# Altium integrated library 6220xx21121 (rev17b).IntLib: 31 symbols
Pins are listed as number, name and electrical type; pins without a type are passive.

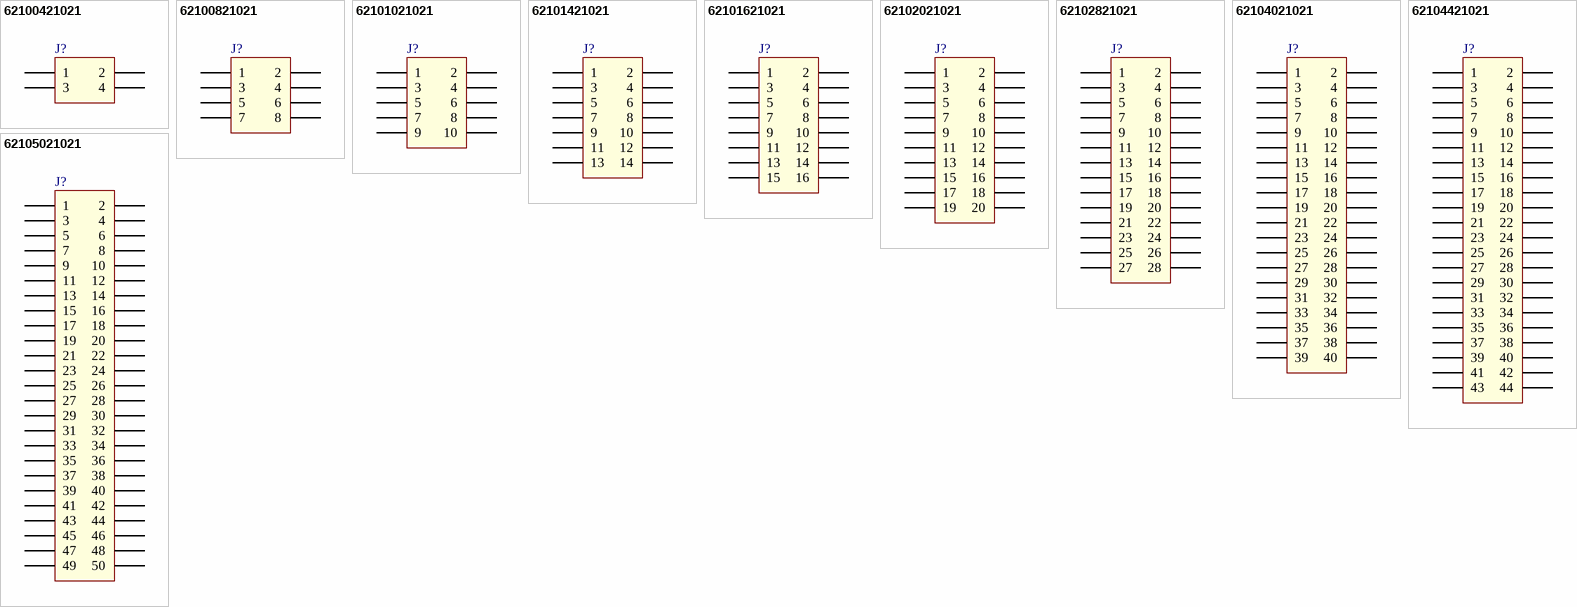
[diagram p0: symbols 62100421021 to 62105021021]

## 62100421021
designator J?
WR-PHD 1.27 mm SMT Dual Pin Header, 4p; Part Number: 62100421021; Pin Number: 4; Rated Current: 1 A; Working Voltage: 100 VAC; Withstanding Voltage: 500 VAC; Pitch: 1.27 mm; ComponentLink1Description: Manufacturer; ComponentLink1URL: http://www.we-online.de; ComponentLink2Description: Datasheet; ComponentLink2URL: http://katalog.we-online.de/em/datasheet/62100421021.pdf; Published Date: Aug 2017; Publisher: Wurth Elektronik
footprint 62100421021
pins: 1, 2, 3, 4

## 62100821021
designator J?
WR-PHD 1.27 mm SMT Dual Pin Header, 8p; Part Number: 62100821021; Pin Number: 8; Rated Current: 1 A; Working Voltage: 100 VAC; Withstanding Voltage: 500 VAC; Pitch: 1.27 mm; ComponentLink1Description: Manufacturer; ComponentLink1URL: http://www.we-online.de; ComponentLink2Description: Datasheet; ComponentLink2URL: http://katalog.we-online.de/em/datasheet/62100821021.pdf; Published Date: Aug 2017; Publisher: Wurth Elektronik
footprint 62100821021
pins: 1, 2, 3, 4, 5, 6, 7, 8

## 62101021021
designator J?
WR-PHD 1.27 mm SMT Dual Pin Header, 10p; Part Number: 62101021021; Pin Number: 10; Rated Current: 1 A; Working Voltage: 100 VAC; Withstanding Voltage: 500 VAC; Pitch: 1.27 mm; ComponentLink1Description: Manufacturer; ComponentLink1URL: http://www.we-online.de; ComponentLink2Description: Datasheet; ComponentLink2URL: http://katalog.we-online.de/em/datasheet/62101021021.pdf; Published Date: Aug 2017; Publisher: Wurth Elektronik
footprint 62101021021
pins: 1, 2, 3, 4, 5, 6, 7, 8, 9, 10

## 62101421021
designator J?
WR-PHD 1.27 mm SMT Dual Pin Header, 14p; Part Number: 62101421021; Pin Number: 14; Rated Current: 1 A; Working Voltage: 100 VAC; Withstanding Voltage: 500 VAC; Pitch: 1.27 mm; ComponentLink1Description: Manufacturer; ComponentLink1URL: http://www.we-online.de; ComponentLink2Description: Datasheet; ComponentLink2URL: http://katalog.we-online.de/em/datasheet/62101421021.pdf; Published Date: Aug 2017; Publisher: Wurth Elektronik
footprint 62101421021
pins: 1, 2, 3, 4, 5, 6, 7, 8, 9, 10, 11, 12, 13, 14

## 62101621021
designator J?
WR-PHD 1.27 mm SMT Dual Pin Header, 16p; Part Number: 62101621021; Pin Number: 16; Rated Current: 1 A; Working Voltage: 100 VAC; Withstanding Voltage: 500 VAC; Pitch: 1.27 mm; ComponentLink1Description: Manufacturer; ComponentLink1URL: http://www.we-online.de; ComponentLink2Description: Datasheet; ComponentLink2URL: http://katalog.we-online.de/em/datasheet/62101621021.pdf; Published Date: Aug 2017; Publisher: Wurth Elektronik
footprint 62101621021
pins: 1, 2, 3, 4, 5, 6, 7, 8, 9, 10, 11, 12, 13, 14, 15, 16

## 62102021021
designator J?
WR-PHD 1.27 mm SMT Dual Pin Header, 20p; Part Number: 62102021021; Pin Number: 20; Rated Current: 1 A; Working Voltage: 100 VAC; Withstanding Voltage: 500 VAC; Pitch: 1.27 mm; ComponentLink1Description: Manufacturer; ComponentLink1URL: http://www.we-online.de; ComponentLink2Description: Datasheet; ComponentLink2URL: http://katalog.we-online.de/em/datasheet/62102021021.pdf; Published Date: Aug 2017; Publisher: Wurth Elektronik
footprint 62102021021
pins: 1, 2, 3, 4, 5, 6, 7, 8, 9, 10, 11, 12, 13, 14, 15, 16, 17, 18, 19, 20

## 62102821021
designator J?
WR-PHD 1.27 mm SMT Dual Pin Header, 28p; Part Number: 62102821021; Pin Number: 28; Rated Current: 1 A; Working Voltage: 100 VAC; Withstanding Voltage: 500 VAC; Pitch: 1.27 mm; ComponentLink1Description: Manufacturer; ComponentLink1URL: http://www.we-online.de; ComponentLink2Description: Datasheet; ComponentLink2URL: http://katalog.we-online.de/em/datasheet/62102821021.pdf; Published Date: Aug 2017; Publisher: Wurth Elektronik
footprint 62102821021
pins: 1, 2, 3, 4, 5, 6, 7, 8, 9, 10, 11, 12, 13, 14, 15, 16, 17, 18, 19, 20, 21, 22, 23, 24, 25, 26, 27, 28

## 62104021021
designator J?
WR-PHD 1.27 mm SMT Dual Pin Header, 40p; Part Number: 62104021021; Pin Number: 40; Rated Current: 1 A; Working Voltage: 100 VAC; Withstanding Voltage: 500 VAC; Pitch: 1.27 mm; ComponentLink1Description: Manufacturer; ComponentLink1URL: http://www.we-online.de; ComponentLink2Description: Datasheet; ComponentLink2URL: http://katalog.we-online.de/em/datasheet/62104021021.pdf; Published Date: Aug 2017; Publisher: Wurth Elektronik
footprint 62104021021
pins: 1, 2, 3, 4, 5, 6, 7, 8, 9, 10, 11, 12, 13, 14, 15, 16, 17, 18, 19, 20, 21, 22, 23, 24, 25, 26, 27, 28, 29, 30, 31, 32, 33, 34, 35, 36, 37, 38, 39, 40

## 62104421021
designator J?
WR-PHD 1.27 mm SMT Dual Pin Header, 44p; Part Number: 62104421021; Pin Number: 44; Rated Current: 1 A; Working Voltage: 100 VAC; Withstanding Voltage: 500 VAC; Pitch: 1.27 mm; ComponentLink1Description: Manufacturer; ComponentLink1URL: http://www.we-online.de; ComponentLink2Description: Datasheet; ComponentLink2URL: http://katalog.we-online.de/em/datasheet/62104421021.pdf; Published Date: Aug 2017; Publisher: Wurth Elektronik
footprint 62104421021
pins: 1, 2, 3, 4, 5, 6, 7, 8, 9, 10, 11, 12, 13, 14, 15, 16, 17, 18, 19, 20, 21, 22, 23, 24, 25, 26, 27, 28, 29, 30, 31, 32, 33, 34, 35, 36, 37, 38, 39, 40, 41, 42, 43, 44

## 62105021021
designator J?
WR-PHD 1.27 mm SMT Dual Pin Header, 50p; Part Number: 62105021021; Pin Number: 50; Rated Current: 1 A; Working Voltage: 100 VAC; Withstanding Voltage: 500 VAC; Pitch: 1.27 mm; ComponentLink1Description: Manufacturer; ComponentLink1URL: http://www.we-online.de; ComponentLink2Description: Datasheet; ComponentLink2URL: http://katalog.we-online.de/em/datasheet/62105021021.pdf; Published Date: Aug 2017; Publisher: Wurth Elektronik
footprint 62105021021
pins: 1, 2, 3, 4, 5, 6, 7, 8, 9, 10, 11, 12, 13, 14, 15, 16, 17, 18, 19, 20, 21, 22, 23, 24, 25, 26, 27, 28, 29, 30, 31, 32, 33, 34, 35, 36, 37, 38, 39, 40, 41, 42, 43, 44, 45, 46, 47, 48, 49, 50


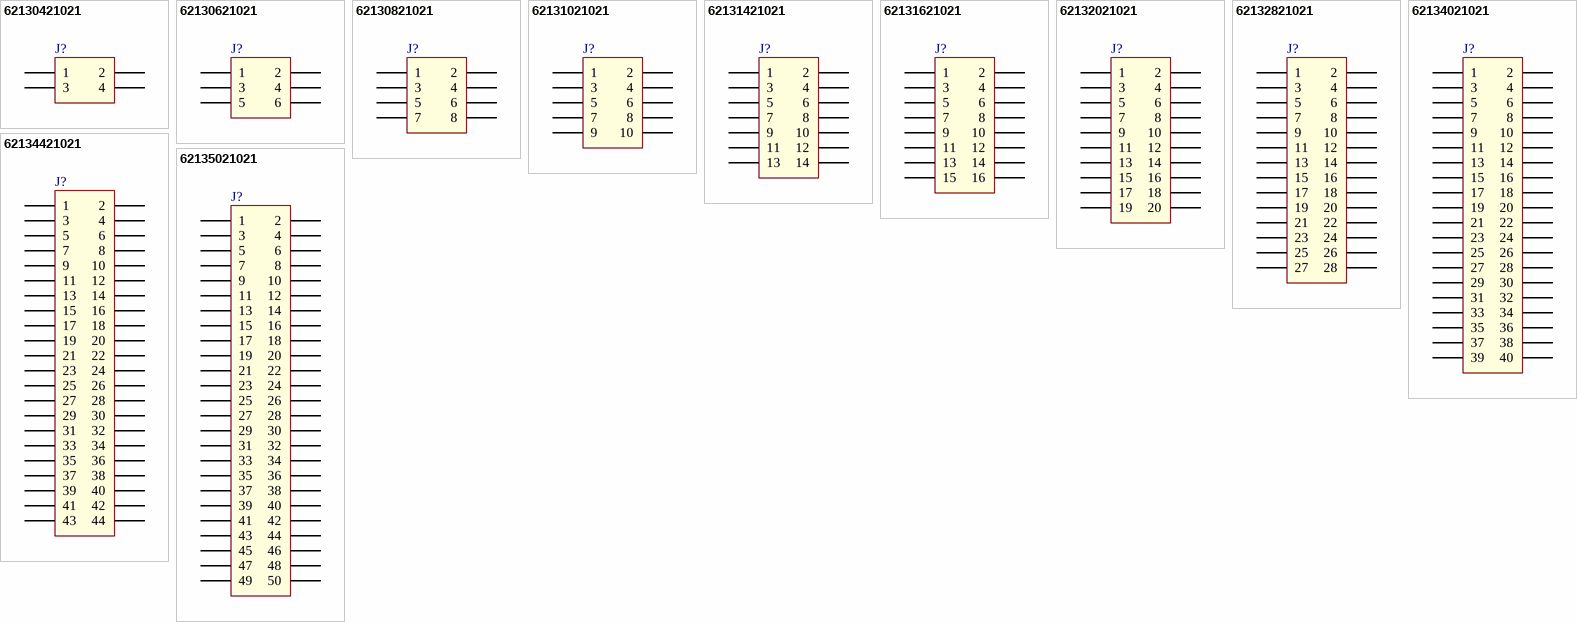
[diagram p1: symbols 62130421021 to 62135021021]

## 62130421021
designator J?
WR-PHD 1.27 mm SMT Dual Pin Header, 4p; Part Number: 62130421021; Pin Number: 4; Rated Current: 1 A; Working Voltage: 100 VAC; Withstanding Voltage: 500 VAC; Pitch: 1.27 mm; ComponentLink1Description: Manufacturer; ComponentLink1URL: http://www.we-online.de; ComponentLink2Description: Datasheet; ComponentLink2URL: http://katalog.we-online.de/em/datasheet/62130421021.pdf; Published Date: Aug 2017; Publisher: Wurth Elektronik
footprint 62130421021
pins: 1, 2, 3, 4

## 62130621021
designator J?
WR-PHD 1.27 mm SMT Dual Pin Header, 6p; Part Number: 62130621021; Pin Number: 6; Rated Current: 1 A; Working Voltage: 100 VAC; Withstanding Voltage: 500 VAC; Pitch: 1.27 mm; ComponentLink1Description: Manufacturer; ComponentLink1URL: http://www.we-online.de; ComponentLink2Description: Datasheet; ComponentLink2URL: http://katalog.we-online.de/em/datasheet/62130621021.pdf; Published Date: Aug 2017; Publisher: Wurth Elektronik
footprint 62130621021
pins: 1, 2, 3, 4, 5, 6

## 62130821021
designator J?
WR-PHD 1.27 mm SMT Dual Pin Header, 8p; Part Number: 62130821021; Pin Number: 8; Rated Current: 1 A; Working Voltage: 100 VAC; Withstanding Voltage: 500 VAC; Pitch: 1.27 mm; ComponentLink1Description: Manufacturer; ComponentLink1URL: http://www.we-online.de; ComponentLink2Description: Datasheet; ComponentLink2URL: http://katalog.we-online.de/em/datasheet/62130821021.pdf; Published Date: Aug 2017; Publisher: Wurth Elektronik
footprint 62130821021
pins: 1, 2, 3, 4, 5, 6, 7, 8

## 62131021021
designator J?
WR-PHD 1.27 mm SMT Dual Pin Header, 10p; Part Number: 62131021021; Pin Number: 10; Rated Current: 1 A; Working Voltage: 100 VAC; Withstanding Voltage: 500 VAC; Pitch: 1.27 mm; ComponentLink1Description: Manufacturer; ComponentLink1URL: http://www.we-online.de; ComponentLink2Description: Datasheet; ComponentLink2URL: http://katalog.we-online.de/em/datasheet/62131021021.pdf; Published Date: Aug 2017; Publisher: Wurth Elektronik
footprint 62131021021
pins: 1, 2, 3, 4, 5, 6, 7, 8, 9, 10

## 62131421021
designator J?
WR-PHD 1.27 mm SMT Dual Pin Header, 14p; Part Number: 62131421021; Pin Number: 14; Rated Current: 1 A; Working Voltage: 100 VAC; Withstanding Voltage: 500 VAC; Pitch: 1.27 mm; ComponentLink1Description: Manufacturer; ComponentLink1URL: http://www.we-online.de; ComponentLink2Description: Datasheet; ComponentLink2URL: http://katalog.we-online.de/em/datasheet/62131421021.pdf; Published Date: Aug 2017; Publisher: Wurth Elektronik
footprint 62131421021
pins: 1, 2, 3, 4, 5, 6, 7, 8, 9, 10, 11, 12, 13, 14

## 62131621021
designator J?
WR-PHD 1.27 mm SMT Dual Pin Header, 16p; Part Number: 62131621021; Pin Number: 16; Rated Current: 1 A; Working Voltage: 100 VAC; Withstanding Voltage: 500 VAC; Pitch: 1.27 mm; ComponentLink1Description: Manufacturer; ComponentLink1URL: http://www.we-online.de; ComponentLink2Description: Datasheet; ComponentLink2URL: http://katalog.we-online.de/em/datasheet/62131621021.pdf; Published Date: Aug 2017; Publisher: Wurth Elektronik
footprint 62131621021
pins: 1, 2, 3, 4, 5, 6, 7, 8, 9, 10, 11, 12, 13, 14, 15, 16

## 62132021021
designator J?
WR-PHD 1.27 mm SMT Dual Pin Header, 20p; Part Number: 62132021021; Pin Number: 20; Rated Current: 1 A; Working Voltage: 100 VAC; Withstanding Voltage: 500 VAC; Pitch: 1.27 mm; ComponentLink1Description: Manufacturer; ComponentLink1URL: http://www.we-online.de; ComponentLink2Description: Datasheet; ComponentLink2URL: http://katalog.we-online.de/em/datasheet/62132021021.pdf; Published Date: Aug 2017; Publisher: Wurth Elektronik
footprint 62132021021
pins: 1, 2, 3, 4, 5, 6, 7, 8, 9, 10, 11, 12, 13, 14, 15, 16, 17, 18, 19, 20

## 62132821021
designator J?
WR-PHD 1.27 mm SMT Dual Pin Header, 28p; Part Number: 62132821021; Pin Number: 28; Rated Current: 1 A; Working Voltage: 100 VAC; Withstanding Voltage: 500 VAC; Pitch: 1.27 mm; ComponentLink1Description: Manufacturer; ComponentLink1URL: http://www.we-online.de; ComponentLink2Description: Datasheet; ComponentLink2URL: http://katalog.we-online.de/em/datasheet/62132821021.pdf; Published Date: Aug 2017; Publisher: Wurth Elektronik
footprint 62132821021
pins: 1, 2, 3, 4, 5, 6, 7, 8, 9, 10, 11, 12, 13, 14, 15, 16, 17, 18, 19, 20, 21, 22, 23, 24, 25, 26, 27, 28

## 62134021021
designator J?
WR-PHD 1.27 mm SMT Dual Pin Header, 40p; Part Number: 62134021021; Pin Number: 40; Rated Current: 1 A; Working Voltage: 100 VAC; Withstanding Voltage: 500 VAC; Pitch: 1.27 mm; ComponentLink1Description: Manufacturer; ComponentLink1URL: http://www.we-online.de; ComponentLink2Description: Datasheet; ComponentLink2URL: http://katalog.we-online.de/em/datasheet/62134021021.pdf; Published Date: Aug 2017; Publisher: Wurth Elektronik
footprint 62134021021
pins: 1, 2, 3, 4, 5, 6, 7, 8, 9, 10, 11, 12, 13, 14, 15, 16, 17, 18, 19, 20, 21, 22, 23, 24, 25, 26, 27, 28, 29, 30, 31, 32, 33, 34, 35, 36, 37, 38, 39, 40

## 62134421021
designator J?
WR-PHD 1.27 mm SMT Dual Pin Header, 44p; Part Number: 62134421021; Pin Number: 44; Rated Current: 1 A; Working Voltage: 100 VAC; Withstanding Voltage: 500 VAC; Pitch: 1.27 mm; ComponentLink1Description: Manufacturer; ComponentLink1URL: http://www.we-online.de; ComponentLink2Description: Datasheet; ComponentLink2URL: http://katalog.we-online.de/em/datasheet/62134421021.pdf; Published Date: Aug 2017; Publisher: Wurth Elektronik
footprint 62134421021
pins: 1, 2, 3, 4, 5, 6, 7, 8, 9, 10, 11, 12, 13, 14, 15, 16, 17, 18, 19, 20, 21, 22, 23, 24, 25, 26, 27, 28, 29, 30, 31, 32, 33, 34, 35, 36, 37, 38, 39, 40, 41, 42, 43, 44

## 62135021021
designator J?
WR-PHD 1.27 mm SMT Dual Pin Header, 50p; Part Number: 62135021021; Pin Number: 50; Rated Current: 1 A; Working Voltage: 100 VAC; Withstanding Voltage: 500 VAC; Pitch: 1.27 mm; ComponentLink1Description: Manufacturer; ComponentLink1URL: http://www.we-online.de; ComponentLink2Description: Datasheet; ComponentLink2URL: http://katalog.we-online.de/em/datasheet/62135021021.pdf; Published Date: Aug 2017; Publisher: Wurth Elektronik
footprint 62135021021
pins: 1, 2, 3, 4, 5, 6, 7, 8, 9, 10, 11, 12, 13, 14, 15, 16, 17, 18, 19, 20, 21, 22, 23, 24, 25, 26, 27, 28, 29, 30, 31, 32, 33, 34, 35, 36, 37, 38, 39, 40, 41, 42, 43, 44, 45, 46, 47, 48, 49, 50


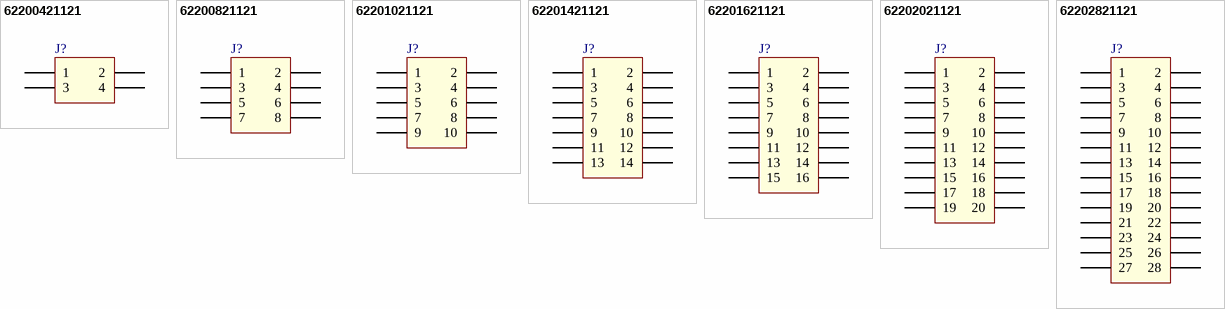
[diagram p2: symbols 62200421121 to 62202821121]

## 62200421121
designator J?
WR-PHD 1.27 mm THT Dual Pin Header, 4p; Part Number: 62200421121; Pin Number: 4; Rated Current: 1 A; Working Voltage: 100 VAC; Withstanding Voltage: 500 VAC; Pitch: 1.27 mm; ComponentLink1Description: Manufacturer; ComponentLink1URL: http://www.we-online.de; ComponentLink2Description: Datasheet; ComponentLink2URL: http://katalog.we-online.de/em/datasheet/62200421121.pdf; Published Date: Aug 2017; Publisher: Wurth Elektronik
footprint 62200421121
pins: 1, 2, 3, 4

## 62200821121
designator J?
WR-PHD 1.27 mm THT Dual Pin Header, 8p; Part Number: 62200821121; Pin Number: 8; Rated Current: 1 A; Working Voltage: 100 VAC; Withstanding Voltage: 500 VAC; Pitch: 1.27 mm; ComponentLink1Description: Manufacturer; ComponentLink1URL: http://www.we-online.de; ComponentLink2Description: Datasheet; ComponentLink2URL: http://katalog.we-online.de/em/datasheet/62200821121.pdf; Published Date: Aug 2017; Publisher: Wurth Elektronik
footprint 62200821121
pins: 1, 2, 3, 4, 5, 6, 7, 8

## 62201021121
designator J?
WR-PHD 1.27 mm THT Dual Pin Header, 10p; Part Number: 62201021121; Pin Number: 10; Rated Current: 1 A; Working Voltage: 100 VAC; Withstanding Voltage: 500 VAC; Pitch: 1.27 mm; ComponentLink1Description: Manufacturer; ComponentLink1URL: http://www.we-online.de; ComponentLink2Description: Datasheet; ComponentLink2URL: http://katalog.we-online.de/em/datasheet/62201021121.pdf; Published Date: Aug 2017; Publisher: Wurth Elektronik
footprint 62201021121
pins: 1, 2, 3, 4, 5, 6, 7, 8, 9, 10

## 62201421121
designator J?
WR-PHD 1.27 mm THT Dual Pin Header, 14p; Part Number: 62201421121; Pin Number: 14; Rated Current: 1 A; Working Voltage: 100 VAC; Withstanding Voltage: 500 VAC; Pitch: 1.27 mm; ComponentLink1Description: Manufacturer; ComponentLink1URL: http://www.we-online.de; ComponentLink2Description: Datasheet; ComponentLink2URL: http://katalog.we-online.de/em/datasheet/62201421121.pdf; Published Date: Aug 2017; Publisher: Wurth Elektronik
footprint 62201421121
pins: 1, 2, 3, 4, 5, 6, 7, 8, 9, 10, 11, 12, 13, 14

## 62201621121
designator J?
WR-PHD 1.27 mm THT Dual Pin Header, 16p; Part Number: 62201621121; Pin Number: 16; Rated Current: 1 A; Working Voltage: 100 VAC; Withstanding Voltage: 500 VAC; Pitch: 1.27 mm; ComponentLink1Description: Manufacturer; ComponentLink1URL: http://www.we-online.de; ComponentLink2Description: Datasheet; ComponentLink2URL: http://katalog.we-online.de/em/datasheet/62201621121.pdf; Published Date: Aug 2017; Publisher: Wurth Elektronik
footprint 62201621121
pins: 1, 2, 3, 4, 5, 6, 7, 8, 9, 10, 11, 12, 13, 14, 15, 16

## 62202021121
designator J?
WR-PHD 1.27 mm THT Dual Pin Header, 20p; Part Number: 62202021121; Pin Number: 20; Rated Current: 1 A; Working Voltage: 100 VAC; Withstanding Voltage: 500 VAC; Pitch: 1.27 mm; ComponentLink1Description: Manufacturer; ComponentLink1URL: http://www.we-online.de; ComponentLink2Description: Datasheet; ComponentLink2URL: http://katalog.we-online.de/em/datasheet/62202021121.pdf; Published Date: Aug 2017; Publisher: Wurth Elektronik
footprint 62202021121
pins: 1, 2, 3, 4, 5, 6, 7, 8, 9, 10, 11, 12, 13, 14, 15, 16, 17, 18, 19, 20

## 62202821121
designator J?
WR-PHD 1.27 mm THT Dual Pin Header, 28p; Part Number: 62202821121; Pin Number: 28; Rated Current: 1 A; Working Voltage: 100 VAC; Withstanding Voltage: 500 VAC; Pitch: 1.27 mm; ComponentLink1Description: Manufacturer; ComponentLink1URL: http://www.we-online.de; ComponentLink2Description: Datasheet; ComponentLink2URL: http://katalog.we-online.de/em/datasheet/62202821121.pdf; Published Date: Aug 2017; Publisher: Wurth Elektronik
footprint 62202821121
pins: 1, 2, 3, 4, 5, 6, 7, 8, 9, 10, 11, 12, 13, 14, 15, 16, 17, 18, 19, 20, 21, 22, 23, 24, 25, 26, 27, 28


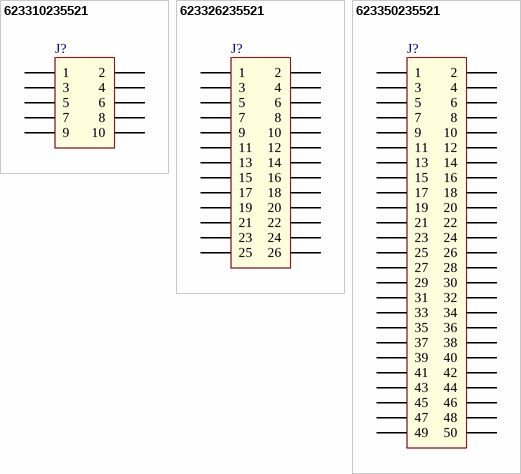
[diagram p3: symbols 623310235521 to 623350235521]

## 623310235521
designator J?
WR-PHD 1.27 mm SMT Dual Pin Header, 10p; Part Number: 623310235521; Pin Number: 10; Rated Current: 1 A; Working Voltage: 100 VAC; Withstanding Voltage: 500 VAC; Pitch: 1.27 mm; ComponentLink1Description: Manufacturer; ComponentLink1URL: http://www.we-online.de; ComponentLink2Description: Datasheet; ComponentLink2URL: http://katalog.we-online.de/em/datasheet/623310235521.pdf; Published Date: Aug 2017; Publisher: Wurth Elektronik
footprint 623310235521
pins: 1, 2, 3, 4, 5, 6, 7, 8, 9, 10

## 623326235521
designator J?
WR-PHD 1.27 mm SMT Dual Pin Header, 26p; Part Number: 623326235521; Pin Number: 26; Rated Current: 1 A; Working Voltage: 100 VAC; Withstanding Voltage: 500 VAC; Pitch: 1.27 mm; ComponentLink1Description: Manufacturer; ComponentLink1URL: http://www.we-online.de; ComponentLink2Description: Datasheet; ComponentLink2URL: http://katalog.we-online.de/em/datasheet/623326235521.pdf; Published Date: Aug 2017; Publisher: Wurth Elektronik
footprint 623326235521
pins: 1, 2, 3, 4, 5, 6, 7, 8, 9, 10, 11, 12, 13, 14, 15, 16, 17, 18, 19, 20, 21, 22, 23, 24, 25, 26

## 623350235521
designator J?
WR-PHD 1.27 mm SMT Dual Pin Header, 50p; Part Number: 623350235521; Pin Number: 50; Rated Current: 1 A; Working Voltage: 100 VAC; Withstanding Voltage: 500 VAC; Pitch: 1.27 mm; ComponentLink1Description: Manufacturer; ComponentLink1URL: http://www.we-online.de; ComponentLink2Description: Datasheet; ComponentLink2URL: http://katalog.we-online.de/em/datasheet/623350235521.pdf; Published Date: Aug 2017; Publisher: Wurth Elektronik
footprint 623350235521
pins: 1, 2, 3, 4, 5, 6, 7, 8, 9, 10, 11, 12, 13, 14, 15, 16, 17, 18, 19, 20, 21, 22, 23, 24, 25, 26, 27, 28, 29, 30, 31, 32, 33, 34, 35, 36, 37, 38, 39, 40, 41, 42, 43, 44, 45, 46, 47, 48, 49, 50